# EAGLE library part SSA-LXH1025 (library led)
LED ARRAY 10-SEGMENT
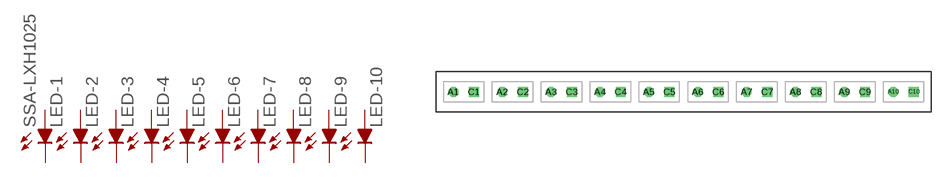
[diagram p8: symbol with the pads of SSA-LXH1025; footprint SSA-LXH1025]

Designator prefix LED; gates -1=LED-NV -2=LED-N -3=LED-N -4=LED-N -5=LED-N -6=LED-N -7=LED-N -8=LED-N -9=LED-N -10=LED-N

## SSA-LXH1025  [SSA-LXH1025]
A1  -1:A  pas
A2  -2:A  pas
A3  -3:A  pas
A4  -4:A  pas
A5  -5:A  pas
A6  -6:A  pas
A7  -7:A  pas
A8  -8:A  pas
A9  -9:A  pas
A10  -10:A  pas
C1  -1:C  pas
C2  -2:C  pas
C3  -3:C  pas
C4  -4:C  pas
C5  -5:C  pas
C6  -6:C  pas
C7  -7:C  pas
C8  -8:C  pas
C9  -9:C  pas
C10  -10:C  pas

## Footprint SSA-LXH1025 (pad centres in mm)
10-Segment LED BAR Lumex
drill 0.711 octagon: A1 -28.27,0; A2 -22.27,0; A3 -16.27,0; A4 -10.27,0; A5 -4.27,0; A6 1.73,0; A7 7.73,0; A8 13.73,0; A9 19.73,0; A10 25.73,0
drill 0.711 square: C1 -25.73,0; C2 -19.73,0; C3 -13.73,0; C4 -7.73,0; C5 -1.73,0; C6 4.27,0; C7 10.27,0; C8 16.27,0; C9 22.27,0; C10 28.27,0